# Altium footprint library AJ066-30-008-02_Fan backplane.PcbLib: 19 footprints (part 1 of 2)
Each footprint in its own frame and in the unit in brackets; x right, y up, seen from the top. Pads: shape width x height; smd on the part's side, far side on the other; paste and mask are expansions set on the pad; w line width, h text height; cw(c..) or ccw(c..) is an arc to the next point about the centre after c.
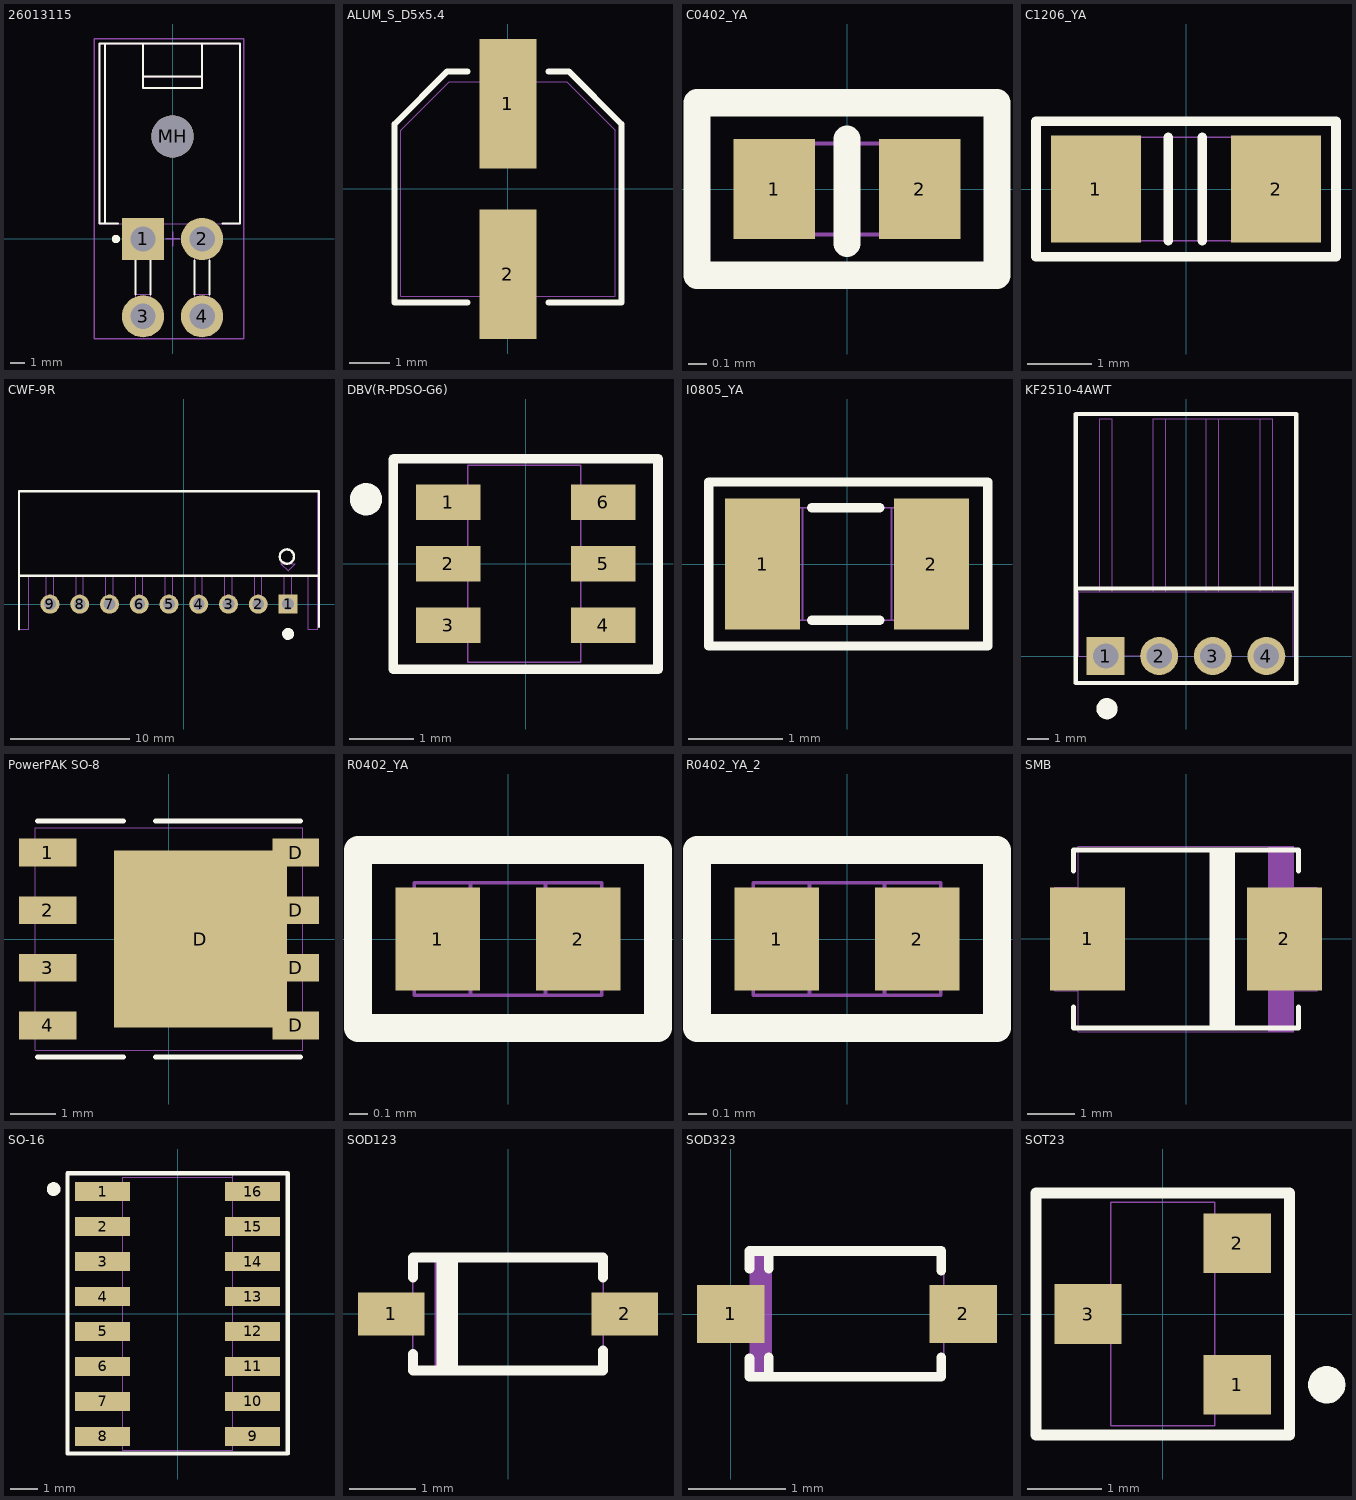
[diagram p0: the footprints below, top view; thin cyan lines are the x and y axes]

## 26013115 [mm] "4.20mm Pitch Header Connector, Body 9.6mm x 12.8mm"
height 11.4
pads (5):
  rect 3x3 hole 1.8: 1(-2.1,0)
  round 3 hole 1.8: 2(2.1,0) 3(-2.1,-5.5) 4(2.1,-5.5)
  round 3 hole 3 unplated: MH(0,7.3)
Top Overlay:
  circle w0.35: c-4.025,0 r0.125
  lines w0.15: -3.875,1.1 -4.8,1.1 ; -2.635,-3.945 -2.635,-1.524 ; -1.565,-3.945 -1.565,-1.524 ; 1.565,-3.945 1.565,-1.524 ; 2.635,-3.945 2.635,-1.524 ; 3.55,1.1 4.8,1.1 ; 4.8,1.1 4.8,13.9 2.1,13.9 ; -4.8,1.1 -4.8,13.9 ; -4.8,1.1 -5.2,1.1 -5.2,13.9 -4.8,13.9 ; -4.8,13.9 -2.1,13.9 ; -2.1,11.55 -2.1,10.728 2.1,10.728 2.1,11.55 ; -2.1,11.55 2.1,11.55 ; -2.1,11.55 -2.1,13.9 ; -2.1,13.9 2.1,13.9 ; 2.1,11.55 2.1,13.9
Top Assembly:
  lines w0.02: -2.635,1.1 -2.635,-3.945 ; -1.565,1.1 -1.565,-3.945 ; 1.565,1.1 1.565,-3.945 ; 2.635,1.1 2.635,-3.945 ; -4.8,1.1 4.8,1.1 4.8,13.9 2.1,13.9 ; -4.8,1.1 -4.8,13.9 ; -4.8,1.1 -5.2,1.1 -5.2,13.9 -4.8,13.9 ; -4.8,13.9 -2.1,13.9 ; -2.635,-3.945 -1.565,-3.945 ; -2.635,-3.945 -2.635,-6.035 -1.565,-6.035 -1.565,-3.945 ; -2.1,11.55 2.1,11.55 ; -2.1,11.55 -2.1,13.9 ; -2.1,11.55 -2.1,10.728 2.1,10.728 2.1,11.55 ; -2.1,13.9 2.1,13.9 ; 1.565,-3.945 2.635,-3.945 ; 1.565,-3.945 1.565,-6.035 2.635,-6.035 2.635,-3.945 ; 2.1,11.55 2.1,13.9
  text "2" at 3.048,-0.508 h1.2
  text "1" at -3.556,-0.508 h1.2
  text "4" at 3.048,-5.842 h1.2
  text "3" at -3.556,-5.842 h1.2
  text "'.Designator'" at 3.3,13.5 h1
Mechanical 15:
  lines w0.1: -0.5,0 0.5,0 ; 0,-0.5 0,0.5 ; -5.588,-7.112 -5.588,14.224 5.08,14.224 5.08,-7.112 -5.588,-7.112
3D body "Molex_26013115.stp": height 11.4, standoff -3.6, extent -5.2,-6.035 4.8,13.9

## ALUM_S_D5x5.4 [mm] "ALU_SMD_D6.3x5.4"
pads (2):
  rect 1.4x3.2 smd: 1(0,2.1) 2(0,-2.1)
Top Overlay:
  lines w0.15: -1,-2.8 -2.8,-2.8 -2.8,1.6 -1.5,2.9 -1,2.9 ; 1,-2.8 2.8,-2.8 2.8,1.6 1.5,2.9 1,2.9
Top Assembly:
  lines w0.02: -0.45,-2.65 -0.45,-3.15 0.45,-3.15 0.45,-2.65 ; -0.45,2.65 -0.45,3.15 0.45,3.15 0.45,2.65 ; -2.65,-2.65 -2.65,1.45 -1.45,2.65 1.45,2.65 2.65,1.45 2.65,-2.65 -2.65,-2.65
  text "'.Designator'" at -1.424,-0.954 h1
Mechanical 17:
3D body "ALU-C.STEP": height 5.41, standoff 0, extent -2.65,-2.95 2.65,2.95

## C0402_YA [mm] "C0402_YA"
pads (2):
  rect 0.45x0.55 smd: 1(-0.4,0) 2(0.4,0)
Top Overlay:
  lines w0.15: 0,-0.3 0,0.275 ; -0.825,-0.475 -0.825,0.475 0.825,0.475 0.825,-0.475 -0.825,-0.475
Top Assembly:
  lines w0.02: -0.3,-0.25 -0.3,0.25 ; 0.3,-0.25 0.3,0.25 ; -0.5,-0.25 0.5,-0.25 0.5,0.25 -0.5,0.25 -0.5,-0.25
  text "'.Designator'" at -0.282,0.336 h0.25
Mechanical 14:
  text "1" at -0.375,-0.08 h0.2
  text "2" at 0.375,-0.08 h0.2
3D body "User Library-SMD CAPACITOR0402.STEP": height 0.5, standoff 0, extent -0.5,-0.25 0.5,0.25

## C1206_YA [mil] "SC1206"
pads (2):
  rect 55x65 smd: 1(-55,0) 2(55,0)
Top Overlay:
  lines w5.91: -10.83,-31.5 -10.83,31.5 ; 9.84,-31.5 9.84,31.5 ; -91.54,-41.34 91.54,-41.34 91.54,41.34 -91.54,41.34 -91.54,-41.34
Top Assembly:
  lines w0.79: -31.5,-31.5 -31.5,31.5 ; 31.5,-31.5 31.5,31.5 ; -63.97,-31.49 62.02,-31.49 62.02,31.5 -63.97,31.5 -63.97,-31.49
  text "'.Designator'" at 22.55,-40.79 h19.68
3D body "User Library-SMD CAPACITOR1206.STEP": height 31.1, standoff 0.39, extent -63.97,-31.49 62.02,31.5

## CWF-9R [mm]
height 5.7
pads (9):
  rect 1.6x1.6 hole 1: 1(8.75,0)
  round 1.6 hole 1: 2(6.25,0) 3(3.75,0) 4(1.25,0) 5(-1.25,0) 6(-3.75,0) 7(-6.25,0) 8(-8.75,0) 9(-11.25,0)
Top Overlay:
  circle w0.2: c8.65,4 r0.6
  circle w0.5: c8.75,-2.5 r0.25
  lines w0.2: -13.85,-2.1 -13.85,9.5 11.35,9.5 11.35,-1.9 ; -13.85,2.4 11.35,2.4
Top Assembly:
  lines w0.02: -13.05,2.4 -13.05,-2.1 -13.85,-2.1 -13.85,2.4 ; -11.55,2.4 -11.55,0 -10.95,0 -10.95,2.4 ; -9.05,2.4 -9.05,0 -8.45,0 -8.45,2.4 ; -6.55,2.4 -6.55,0 -5.95,0 -5.95,2.4 ; -4.05,2.4 -4.05,0 -3.45,0 -3.45,2.4 ; -1.55,2.4 -1.55,0 -0.95,0 -0.95,2.4 ; 0.95,2.4 0.95,0 1.55,0 1.55,2.4 ; 3.45,2.4 3.45,0 4.05,0 4.05,2.4 ; 5.95,2.4 5.95,0 6.55,0 6.55,2.4 ; 7.55,9.5 -13.85,9.5 -13.85,2.4 ; 8.45,2.4 8.45,0 9.05,0 9.05,2.4 ; 9.05,9.5 11.25,9.5 11.25,2.4 ; 10.45,2.4 10.45,-2.1 11.25,-2.1 11.25,2.4 ; -13.85,2.4 11.25,2.4 ; 8.75,2.8 8.75,2.8 ; 8.75,2.8 8.15,3.4 9.35,3.4 ; 8.75,2.8 9.35,3.4 ; 9.35,3.4 9.35,3.4
  text ".Designator" at -14.35,4.4 h1
3D body "DS1069-9 CWF-9R.STEP": height 5.75, standoff -3.5, extent -13.75,-2.625 11.25,8.875

## DBV(R-PDSO-G6) [mm] "SOT23, 6-Leads, Body 3,0x3,0mm (max), Pitch 0,95mm, IPC High Density"
height 1.45
pads (6):
  rect 1x0.55 smd: 1(-1.2,0.95) 2(-1.2,0) 3(-1.2,-0.95) 4(1.2,-0.95) 5(1.2,0) 6(1.2,0.95)
Top Overlay:
  circle w0.25: c-2.475,1 r0.125
  lines w0.15: -2.054,-1.634 2.05,-1.634 2.05,1.627 -2.048,1.627 -2.054,1.621 -2.054,-1.634
Top Assembly:
  lines w0.02: -0.9,-1.2 -1.525,-1.2 -1.525,-0.7 -0.9,-0.7 ; -0.9,-0.25 -1.525,-0.25 -1.525,0.25 -0.9,0.25 ; -0.9,0.7 -1.525,0.7 -1.525,1.2 -0.9,1.2 ; 0.85,-1.2 1.475,-1.2 1.475,-0.7 0.85,-0.7 ; 0.85,-0.25 1.475,-0.25 1.475,0.25 0.85,0.25 ; 0.85,0.7 1.475,0.7 1.475,1.2 0.85,1.2 ; -0.9,-1.525 0.85,-1.525 0.85,1.525 -0.9,1.525 -0.9,-1.525
  text "1" at -0.775,0.8 h0.35
  text "'.Designator'" at 0.637,-0.731 h0.5
3D body "SOT-23-6.STEP": height 1.09, standoff 0, extent -1.213,-1.394 1.213,1.4

## I0805_YA [mm] "I0805_YA"
pads (2):
  rect 0.8x1.4 smd: 1(-0.9,0) 2(0.9,0)
Top Overlay:
  lines w0.1: -0.375,-0.6 0.35,-0.6 ; -0.375,0.6 0.35,0.6 ; -1.475,-0.875 -1.475,0.875 1.5,0.875 1.5,-0.875 -1.475,-0.875
Top Assembly:
  lines w0.02: -0.475,-0.6 -0.475,-0.575 -0.475,0.6 ; 0.475,-0.6 0.475,0.6 ; -1,-0.6 -1,0.6 1,0.6 1,-0.6 -1,-0.6
  text "'.Designator'" at -1.103,-0.574 h0.5
Mechanical 17:
  text "220R" at -0.567,-0.515 h0.64
  text ".Designator" at -3.775,-0.115 h0.7
3D body "User Library-Chip InductorINDC2012X130N.STEP": height 1.3, standoff 0, extent -1,-0.6 1,0.6

## KF2510-4AWT [mm]
height 5.7
pads (4):
  rect 1.8x1.8 hole 1.2: 1(-3.81,0)
  round 1.8 hole 1.2: 2(-1.27,0) 3(1.27,0) 4(3.81,0)
Top Overlay:
  circle w0.5: c-3.75,-2.5 r0.25
  lines w0.2: -5.225,-1.275 -5.225,11.475 5.225,11.475 5.225,-1.275 ; -5.2,3.2 5.175,3.2 ; -5.175,-1.275 5.2,-1.275
Top Assembly:
  lines w0.02: -4.126,3.048 -3.494,3.048 -3.494,11.248 -4.122,11.248 -4.121,3.053 ; -1.581,3.048 -0.954,3.048 -0.954,11.248 -1.581,11.248 ; -1.581,3.053 -1.581,11.248 ; 0.896,0.694 0.896,-0.004 -0.904,0.006 -0.904,0.705 -1.63,0.703 -1.63,0.005 -3.446,0.001 -3.447,0.7 -4.172,0.697 -4.172,0 -5.08,0 -5.08,3.048 5.08,3.048 5.08,0 4.172,0 4.172,0.699 3.447,0.697 3.447,0 1.632,0.007 1.631,0.706 0.906,0.703 ; 0.931,3.048 1.558,3.048 1.558,11.248 0.931,11.248 0.932,3.053 ; 3.497,3.048 4.123,3.048 4.123,11.248 ; 3.497,3.053 3.497,11.248 4.123,11.248 ; -1.581,11.248 4.123,11.248 ; -4.11,-0.381 -3.51,-0.381 -3.51,0.635 -4.11,0.635 -4.11,-0.381 ; -1.57,-0.381 -0.97,-0.381 -0.97,0.635 -1.57,0.635 -1.57,-0.381 ; 0.97,-0.381 1.57,-0.381 1.57,0.635 0.97,0.635 0.97,-0.381 ; 3.51,-0.381 4.11,-0.381 4.11,0.635 3.51,0.635 3.51,-0.381
  text "1" at -3.576,-0.717 h0.5
  text ".Designator" at 1.129,-0.646 h1
3D body "kf2510-4p.STEP": height 5.9, standoff -3.4, extent -5.075,-0.375 5.085,12.925

## PowerPAK SO-8 [mm] "SOIC, 1.27mm Pitch, 8 Pin, Body 5.89mm W X 4.90mm L X 1.12mm H, PowerPAK SO-8 SINGLE"
height 1.12
pads (9):
  rect 1.27x0.61 smd: 1(-2.67,1.905) 2(-2.67,0.635) 3(-2.67,-0.635) 4(-2.67,-1.905)
  rect 3.81x3.91 smd: D(0.69,0)
  rect 1.02x0.61 smd: D(2.795,-1.905) D(2.795,-0.635) D(2.795,0.635) D(2.795,1.905)
Top Overlay:
  lines w0.1: -2.9,-2.6 -1,-2.6 ; -2.9,2.6 -1,2.6 ; -0.3,-2.6 2.9,-2.6 ; -0.3,2.6 2.9,2.6
  text "." at -4.375,1.4 h0.1
Top Assembly:
  lines w0.02: -2.95,-2.15 -3.125,-2.15 -3.125,-1.625 -2.95,-1.625 ; -2.95,-0.9 -3.125,-0.9 -3.125,-0.375 -2.95,-0.375 ; -2.95,0.375 -3.125,0.375 -3.125,0.9 -2.95,0.9 ; -2.95,1.65 -3.125,1.65 -3.125,2.175 -2.95,2.175 ; 2.95,-2.15 3.125,-2.15 3.125,-1.625 2.95,-1.625 ; 2.95,-0.9 3.125,-0.9 3.125,-0.375 2.95,-0.375 ; 2.95,0.375 3.125,0.375 3.125,0.9 2.95,0.9 ; 2.95,1.65 3.125,1.65 3.125,2.175 2.95,2.175 ; -2.945,-2.45 2.945,-2.45 2.945,2.45 -2.945,2.45 -2.945,-2.45
  text ".Designator" at 1.24,-2.875 h1
  text "1" at -2.775,1.725 h0.35
3D body "VISHAY_POWERPAK-SO-8-SINGLE.stp": height 1.12, standoff 0, extent -3.125,-2.54 3.125,2.54

## R0402_YA [mm] "R0402_YA"
pads (2):
  rect 0.45x0.55 smd mask+0.075: 1(-0.375,0) 2(0.375,0)
Top Overlay:
  lines w0.15: -0.8,-0.475 0.8,-0.475 0.8,0.475 -0.8,0.475 -0.8,-0.475
Top Assembly:
  lines w0.02: -0.2,-0.3 -0.2,0.3 ; 0.2,-0.3 0.2,0.3 ; -0.5,-0.3 0.5,-0.3 0.5,0.3 -0.5,0.3 -0.5,-0.3
  text "'.Designator'" at -0.382,0.455 h0.25
3D body "SW3dPS-0402 SMD Resistor.STEP": height 0.2, standoff 0, extent -0.5,-0.3 0.5,0.3

## R0402_YA_2 [mm]
pads (2):
  rect 0.45x0.55 smd mask+0.075: 1(-0.375,0) 2(0.375,0)
Top Overlay:
  lines w0.15: -0.8,-0.475 0.8,-0.475 0.8,0.475 -0.8,0.475 -0.8,-0.475
Top Assembly:
  lines w0.02: -0.2,-0.3 -0.2,0.3 ; 0.2,-0.3 0.2,0.3 ; -0.5,-0.3 0.5,-0.3 0.5,0.3 -0.5,0.3 -0.5,-0.3
  text "'.Designator'" at -0.61,-0.365 h0.25
3D body "SW3dPS-0402 SMD Resistor.STEP": height 0.2, standoff 0, extent -0.5,-0.3 0.5,0.3

## SMB [mm] "Molded Diode, 2-Leads, Body 4,40x3,55mm, IPC Low Density"
height 2.4
pads (2):
  rect 1.6x2.2 smd: 1(-2.1,0) 2(2.1,0)
Top Overlay:
  rectangle: 0.5,-1.901 1.05,1.899
  lines w0.1: -2.4,-1.45 -2.4,-1.9 2.4,-1.9 2.4,-1.45 ; -2.4,1.45 -2.4,1.9 2.4,1.9 2.4,1.45
Top Assembly:
  rectangle: 1.75,-1.976 2.3,1.974
  lines w0.02: -2.3,-1.1 -2.8,-1.1 -2.8,1.1 -2.3,1.1 ; 2.3,-1.1 2.8,-1.1 2.8,1.1 2.3,1.1 ; -2.3,-1.975 2.3,-1.975 2.3,1.975 -2.3,1.975 -2.3,-1.975
  text "'.Designator'" at 3.029,0.588 h1
3D body "DO-214AA(SMB).STEP": height 2.6, standoff -0.05, extent -2.794,-1.975 2.794,1.975

## SO-16 [mm]
height 1.75
pads (16):
  rect 2x0.7 smd: 1(-2.725,4.435) 2(-2.725,3.165) 3(-2.725,1.895) 4(-2.725,0.625) 5(-2.725,-0.645) 6(-2.725,-1.915) 7(-2.725,-3.185) 8(-2.725,-4.455) 9(2.725,-4.455) 10(2.725,-3.185) 11(2.725,-1.915) 12(2.725,-0.645) 13(2.725,0.625) 14(2.725,1.895) 15(2.725,3.165) 16(2.725,4.435)
Top Overlay:
  circle w0.25: c-4.5,4.525 r0.125
  lines w0.15: -4,-5.075 -4,5.1 4,5.1 4,-5.075 -4,-5.075
Top Assembly:
  lines w0.02: -3.101,-2.137 -3.101,-1.687 ; -3.099,0.4 -3.099,0.85 ; -3.1,2.947 -3.1,3.397 ; -3.099,-2.137 -1.999,-2.137 ; -3.099,-1.687 -1.999,-1.687 ; -3.097,0.4 -1.997,0.4 ; -3.097,0.85 -1.997,0.85 ; -3.098,2.947 -1.998,2.947 ; -3.098,3.397 -1.998,3.397 ; -2,-0.868 -3.1,-0.868 -3.1,-0.418 -2,-0.418 ; -2.001,4.225 -3.101,4.225 -3.101,4.675 -2.001,4.675 ; -1.999,-4.692 -3.099,-4.692 -3.099,-4.242 -1.999,-4.242 ; -1.999,-3.415 -3.099,-3.415 -3.099,-2.965 -1.999,-2.965 ; -1.997,1.677 -3.097,1.677 -3.097,2.127 -1.997,2.127 ; 1.997,0.4 3.097,0.4 ; 1.997,0.85 3.097,0.85 ; 1.997,1.677 3.097,1.677 3.097,2.127 1.997,2.127 ; 1.998,2.947 3.098,2.947 ; 1.998,3.397 3.098,3.397 ; 1.999,-4.692 3.099,-4.692 3.099,-4.242 1.999,-4.242 ; 1.999,-3.415 3.099,-3.415 3.099,-2.965 1.999,-2.965 ; 1.999,-2.137 3.099,-2.137 ; 1.999,-1.687 3.099,-1.687 ; 2,-3.775 2,4.95 -2,4.95 -2,-4.95 2,-4.95 2,5.025 ; 2,-0.868 3.1,-0.868 3.1,-0.418 2,-0.418 ; 2.001,4.225 3.101,4.225 3.101,4.675 2.001,4.675 ; 3.099,0.4 3.099,0.85 ; 3.1,2.947 3.1,3.397 ; 3.101,-2.137 3.101,-1.687
  text "1" at -3.347,4.258 h0.35
  text "'.Designator'" at 0.78,-5.165 h0.75
3D body "User Library-SOIC-16-1.STEP": height 1.4, standoff 0, extent -3,-4.95 3,4.95

## SOD123 [mm]
pads (2):
  rect 1x0.65 smd mask+0.1: 1(-1.75,0) 2(1.75,0)
Top Overlay:
  rectangle: -1.075,-0.875 -0.75,0.875
  lines w0.15: -1.425,-0.6 -1.425,-0.85 1.425,-0.85 1.425,-0.55 ; -1.425,0.55 -1.425,0.85 1.425,0.85 1.425,0.55
Top Assembly:
  rectangle: -1.1,-0.85 -0.875,0.85
  lines w0.02: -1.425,-0.275 -1.925,-0.275 -1.925,0.275 -1.425,0.275 ; 1.425,-0.275 1.925,-0.275 1.925,0.275 1.425,0.275 ; -1.425,-0.85 1.425,-0.85 1.425,0.85 -1.425,0.85 -1.425,-0.85
  text "'.Designator'" at 1.034,0.454 h1
3D body "SOD123-1.STEP": height 1.18, standoff 0, extent -1.95,-0.9 1.95,0.9

## SOD323 [mm]
pads (2):
  rect 0.7x0.6 smd: 1(0,0) 2(2.4,0)
Top Overlay:
  lines w0.1: 0.192,-0.458 0.192,-0.65 2.175,-0.65 2.175,-0.45 ; 0.192,0.467 0.192,0.65 2.175,0.65 2.175,0.45 ; 0.392,-0.633 0.392,-0.45 ; 0.392,0.467 0.392,0.65
Top Assembly:
  rectangle: 0.2,-0.65 0.425,0.65
  lines w0.02: 0.2,-0.225 -0.1,-0.225 -0.1,0.225 0.2,0.225 ; 2.2,-0.225 2.5,-0.225 2.5,0.225 2.2,0.225 ; 0.2,-0.65 2.2,-0.65 2.2,0.65 0.2,0.65 0.2,-0.65
  text ".Designator" at -0.153,-0.564 h0.5
3D body "SOD323-1.STEP": height 1.1, standoff 0, extent -0.1,-0.675 2.5,0.675

## SOT23 [mm] "SOT23, 6-Leads, Body 3,0x3,0mm (max), Pitch 0,95mm, IPC High Density"
height 1.45
pads (3):
  rect 0.9x0.8 smd: 1(1,-0.95) 2(1,0.95) 3(-1,0)
Top Overlay:
  circle w0.25: c2.2,-0.95 r0.125
  lines w0.15: -1.7,-1.625 -1.7,1.625 1.7,1.625 1.7,-1.625 -1.7,-1.625
Top Assembly:
  lines w0.02: -0.7,-0.25 -1.3,-0.25 -1.3,0.25 -0.7,0.25 ; 0.7,-1.2 1.3,-1.2 1.3,-0.7 0.7,-0.7 ; 0.7,0.7 1.3,0.7 1.3,1.2 0.7,1.2 ; -0.7,-1.5 0.7,-1.5 0.7,1.5 -0.7,1.5 -0.7,-1.5
  text "3" at -1.111,-0.12 h0.25
  text "2" at 0.943,0.802 h0.25
  text "1" at 0.976,-1.105 h0.25
  text "'.Designator'" at -0.709,1.663 h0.5
3D body "SOT-23.STEP": height 1.05, standoff -0.05, extent -1.25,-1.5 1.25,1.5